# Altium footprint library JSTXH_PCBLib_Hidde.PcbLib: 14 footprints
Each footprint in its own frame and in the unit in brackets; x right, y up, seen from the top. Pads: shape width x height; smd on the part's side, far side on the other; paste and mask are expansions set on the pad; w line width, h text height; cw(c..) or ccw(c..) is an arc to the next point about the centre after c.
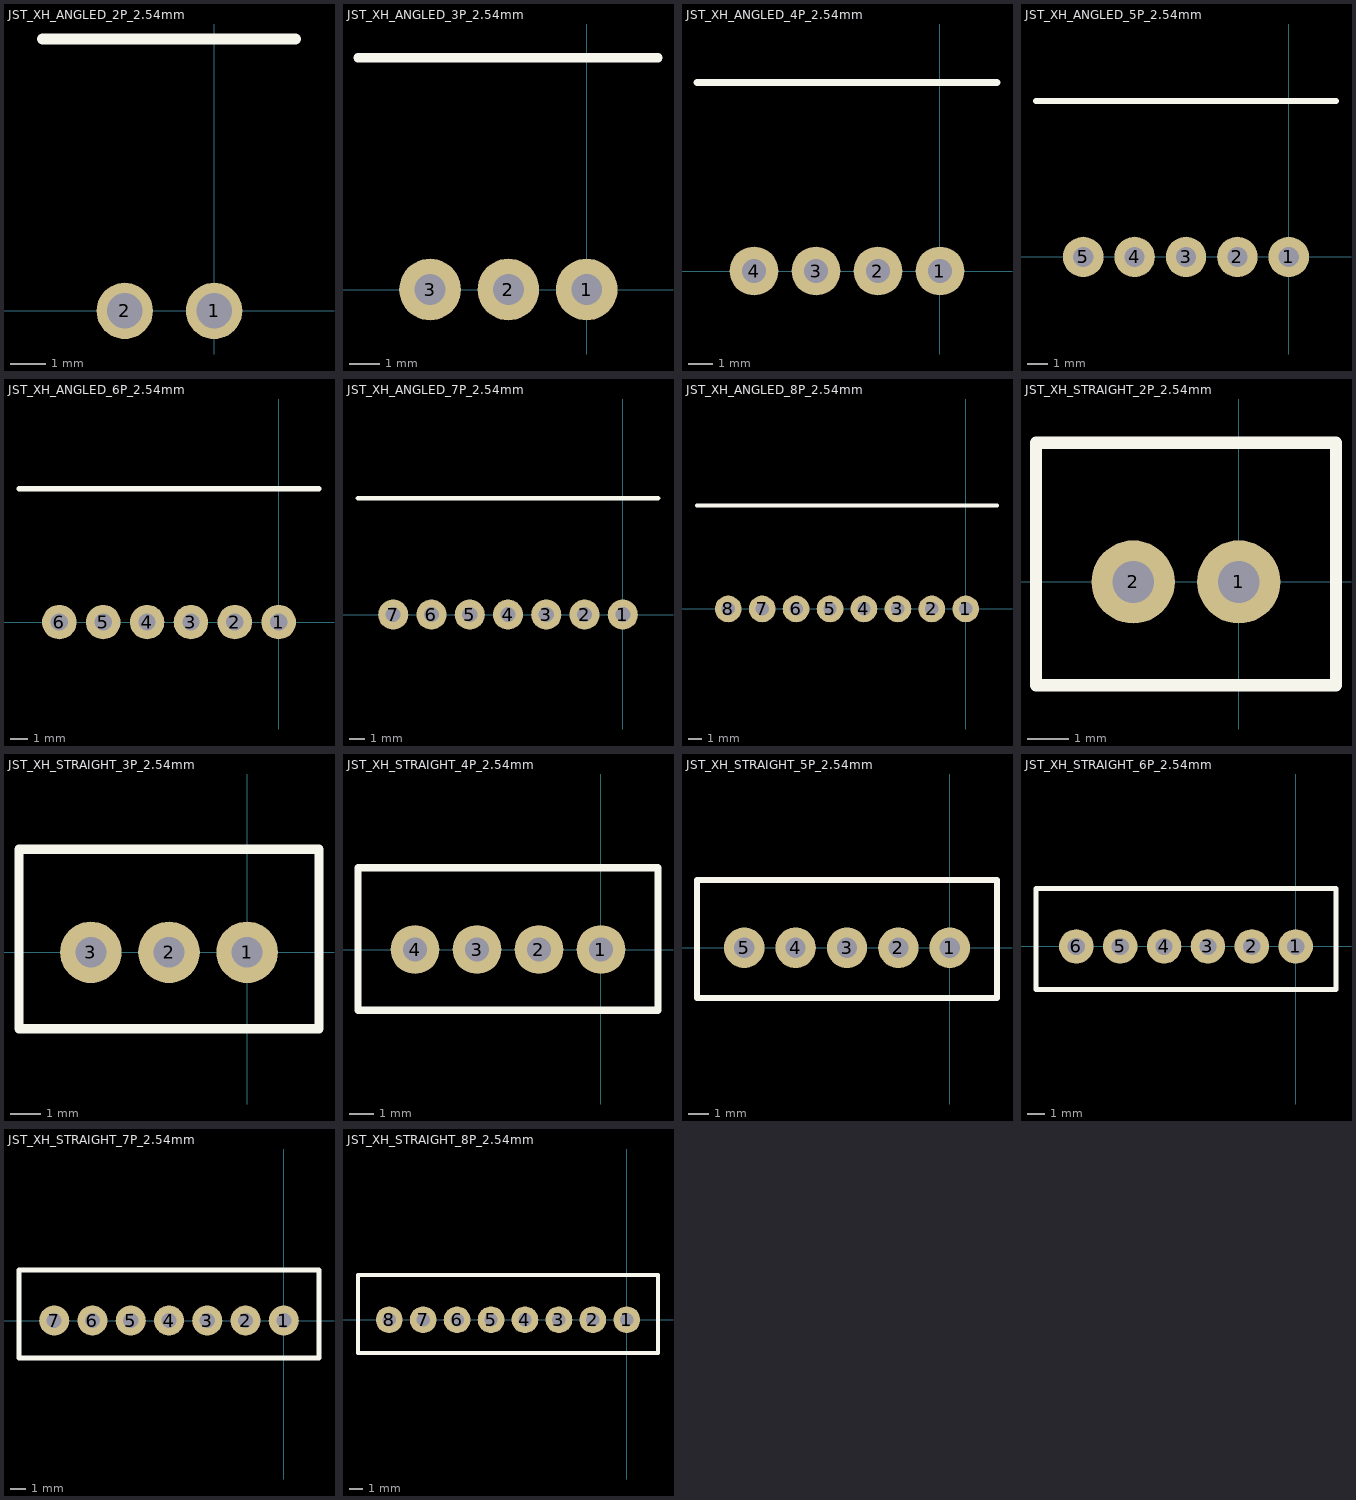
[diagram p0: the footprints below, top view; thin cyan lines are the x and y axes]

## JST_XH_ANGLED_2P_2.54mm [mm]
pads (2):
  round 1.6 hole 1: 1(0,0) 2(-2.54,0)
Top Overlay:
  lines w0.3: -4.877,7.722 2.311,7.722
3D body "JST - XH - Thru R - 2Pin - 2.54mm.stp": height 5.84, standoff -3.38, extent -4.877,-0.303 2.337,7.734

## JST_XH_ANGLED_3P_2.54mm [mm]
pads (3):
  round 2 hole 1: 1(0,0) 2(-2.54,0) 3(-5.08,0)
Top Overlay:
  lines w0.3: -7.417,7.518 2.311,7.518
3D body "JST - XH - Thru R - 3Pin - 2.54mm.stp": height 5.84, standoff -3.38, extent -7.417,-0.503 2.337,7.534

## JST_XH_ANGLED_4P_2.54mm [mm]
pads (4):
  round 2 hole 1: 1(0,0) 2(-2.54,0) 3(-5.08,0) 4(-7.62,0)
Top Overlay:
  lines w0.3: -9.957,7.722 2.337,7.722
3D body "JST - XH - Thru R - 4Pin - 2.54mm.stp": height 5.84, standoff -3.38, extent -9.957,-0.303 2.337,7.734

## JST_XH_ANGLED_5P_2.54mm [mm]
pads (5):
  round 2 hole 1: 1(0,0) 2(-2.54,0) 3(-5.08,0) 4(-7.62,0) 5(-10.16,0)
Top Overlay:
  lines w0.3: -12.497,7.722 2.337,7.722
3D body "JST - XH - Thru R - 5Pin - 2.54mm.stp": height 5.84, standoff -3.38, extent -12.497,-0.303 2.337,7.734

## JST_XH_ANGLED_6P_2.54mm [mm]
pads (6):
  round 2 hole 1: 1(0,0) 2(-2.54,0) 3(-5.08,0) 4(-7.62,0) 5(-10.16,0) 6(-12.7,0)
Top Overlay:
  lines w0.3: -15.037,7.722 2.337,7.722
3D body "JST - XH - Thru R - 6Pin - 2.54mm.stp": height 5.84, standoff -3.38, extent -15.037,-0.303 2.337,7.734

## JST_XH_ANGLED_7P_2.54mm [mm]
pads (7):
  round 2 hole 1: 1(0,0) 2(-2.54,0) 3(-5.08,0) 4(-7.62,0) 5(-10.16,0) 6(-12.7,0) 7(-15.24,0)
Top Overlay:
  lines w0.3: -17.577,7.722 2.337,7.722
3D body "JST - XH - Thru R - 7Pin - 2.54mm.stp": height 5.84, standoff -3.38, extent -17.577,-0.303 2.337,7.734

## JST_XH_ANGLED_8P_2.54mm [mm]
pads (8):
  round 2 hole 1: 1(0,0) 2(-2.54,0) 3(-5.08,0) 4(-7.62,0) 5(-10.16,0) 6(-12.7,0) 7(-15.24,0) 8(-17.78,0)
Top Overlay:
  lines w0.3: -20.117,7.722 2.337,7.722
3D body "JST - XH - Thru R - 8Pin - 2.54mm.stp": height 5.84, standoff -3.38, extent -20.117,-0.312 2.337,7.724

## JST_XH_STRAIGHT_2P_2.54mm [mm]
pads (2):
  round 2 hole 1: 1(0,0) 2(-2.54,0)
Top Overlay:
  lines w0.3: -4.877,-2.489 2.337,-2.489 2.337,3.353 -4.877,3.353 -4.877,-2.489
3D body "JST - XH - Thru (V) - 2Pin - 2.54mm.stp": height 7.21, standoff -3, extent -4.877,-2.489 2.337,3.353

## JST_XH_STRAIGHT_3P_2.54mm [mm]
pads (3):
  round 2 hole 1: 1(0,0) 2(-2.54,0) 3(-5.08,0)
Top Overlay:
  lines w0.3: -7.417,-2.489 -7.417,3.353 2.337,3.353 2.337,-2.489 -7.417,-2.489
3D body "JST - XH - Thru (V) - 3Pin - 2.54mm.stp": height 7.21, standoff -3, extent -7.417,-2.489 2.337,3.353

## JST_XH_STRAIGHT_4P_2.54mm [mm]
pads (4):
  round 2 hole 1: 1(0,0) 2(-2.54,0) 3(-5.08,0) 4(-7.62,0)
Top Overlay:
  lines w0.3: -9.957,-2.489 2.337,-2.489 2.337,3.353 -9.957,3.353 -9.957,-2.489
3D body "JST - XH - Thru (V) - 4Pin - 2.54mm.stp": height 7.21, standoff -3, extent -9.957,-2.489 2.337,3.353

## JST_XH_STRAIGHT_5P_2.54mm [mm]
pads (5):
  round 2 hole 1: 1(0,0) 2(-2.54,0) 3(-5.08,0) 4(-7.62,0) 5(-10.16,0)
Top Overlay:
  lines w0.3: -12.497,-2.489 2.337,-2.489 2.337,3.353 -12.497,3.353 -12.497,-2.489
3D body "JST - XH - Thru (V) - 5Pin - 2.54mm.stp": height 7.21, standoff -3, extent -12.497,-2.489 2.337,3.353

## JST_XH_STRAIGHT_6P_2.54mm [mm]
pads (6):
  round 2 hole 1: 1(0,0) 2(-2.54,0) 3(-5.08,0) 4(-7.62,0) 5(-10.16,0) 6(-12.7,0)
Top Overlay:
  lines w0.3: -15.037,-2.489 2.337,-2.489 2.337,3.353 -15.037,3.353 -15.037,-2.489
3D body "JST - XH - Thru (V) - 6Pin - 2.54mm.stp": height 7.21, standoff -3, extent -15.037,-2.489 2.337,3.353

## JST_XH_STRAIGHT_7P_2.54mm [mm]
pads (7):
  round 2 hole 1: 1(0,0) 2(-2.54,0) 3(-5.08,0) 4(-7.62,0) 5(-10.16,0) 6(-12.7,0) 7(-15.24,0)
Top Overlay:
  lines w0.3: -17.577,-2.489 2.337,-2.489 2.337,3.353 -17.577,3.353 -17.577,-2.489
3D body "JST - XH - Thru (V) - 7Pin - 2.54mm.stp": height 7.21, standoff -3, extent -17.577,-2.489 2.337,3.353

## JST_XH_STRAIGHT_8P_2.54mm [mm]
pads (8):
  round 2 hole 1: 1(0,0) 2(-2.54,0) 3(-5.08,0) 4(-7.62,0) 5(-10.16,0) 6(-12.7,0) 7(-15.24,0) 8(-17.78,0)
Top Overlay:
  lines w0.3: -20.117,-2.489 2.337,-2.489 2.337,3.353 -20.117,3.353 -20.117,-2.489
3D body "JST - XH - Thru (V) - 8Pin - 2.54mm.stp": height 7.21, standoff -3, extent -20.117,-2.489 2.337,3.353